# EAGLE library part 1967ВЦ3Т (library mcu)
АЕНВ.431280.088 ТУ, АЕНВ.431280.089 ТУ 1967ВЦ3Т - 32-разрядный высокопроизводительный процессор цифровой обработки сигналов архитектуры TigerSHARC с системой команд ADSP-TS201. Имеет 12МБит SRAM и работает на частоте 300МГц. Производитель: ЗАО "ПКК Миландр", г. Зеленоград, Москва. Технические условия: АЕНВ.431280.088 ТУ, АЕНВ.431280.089 ТУ
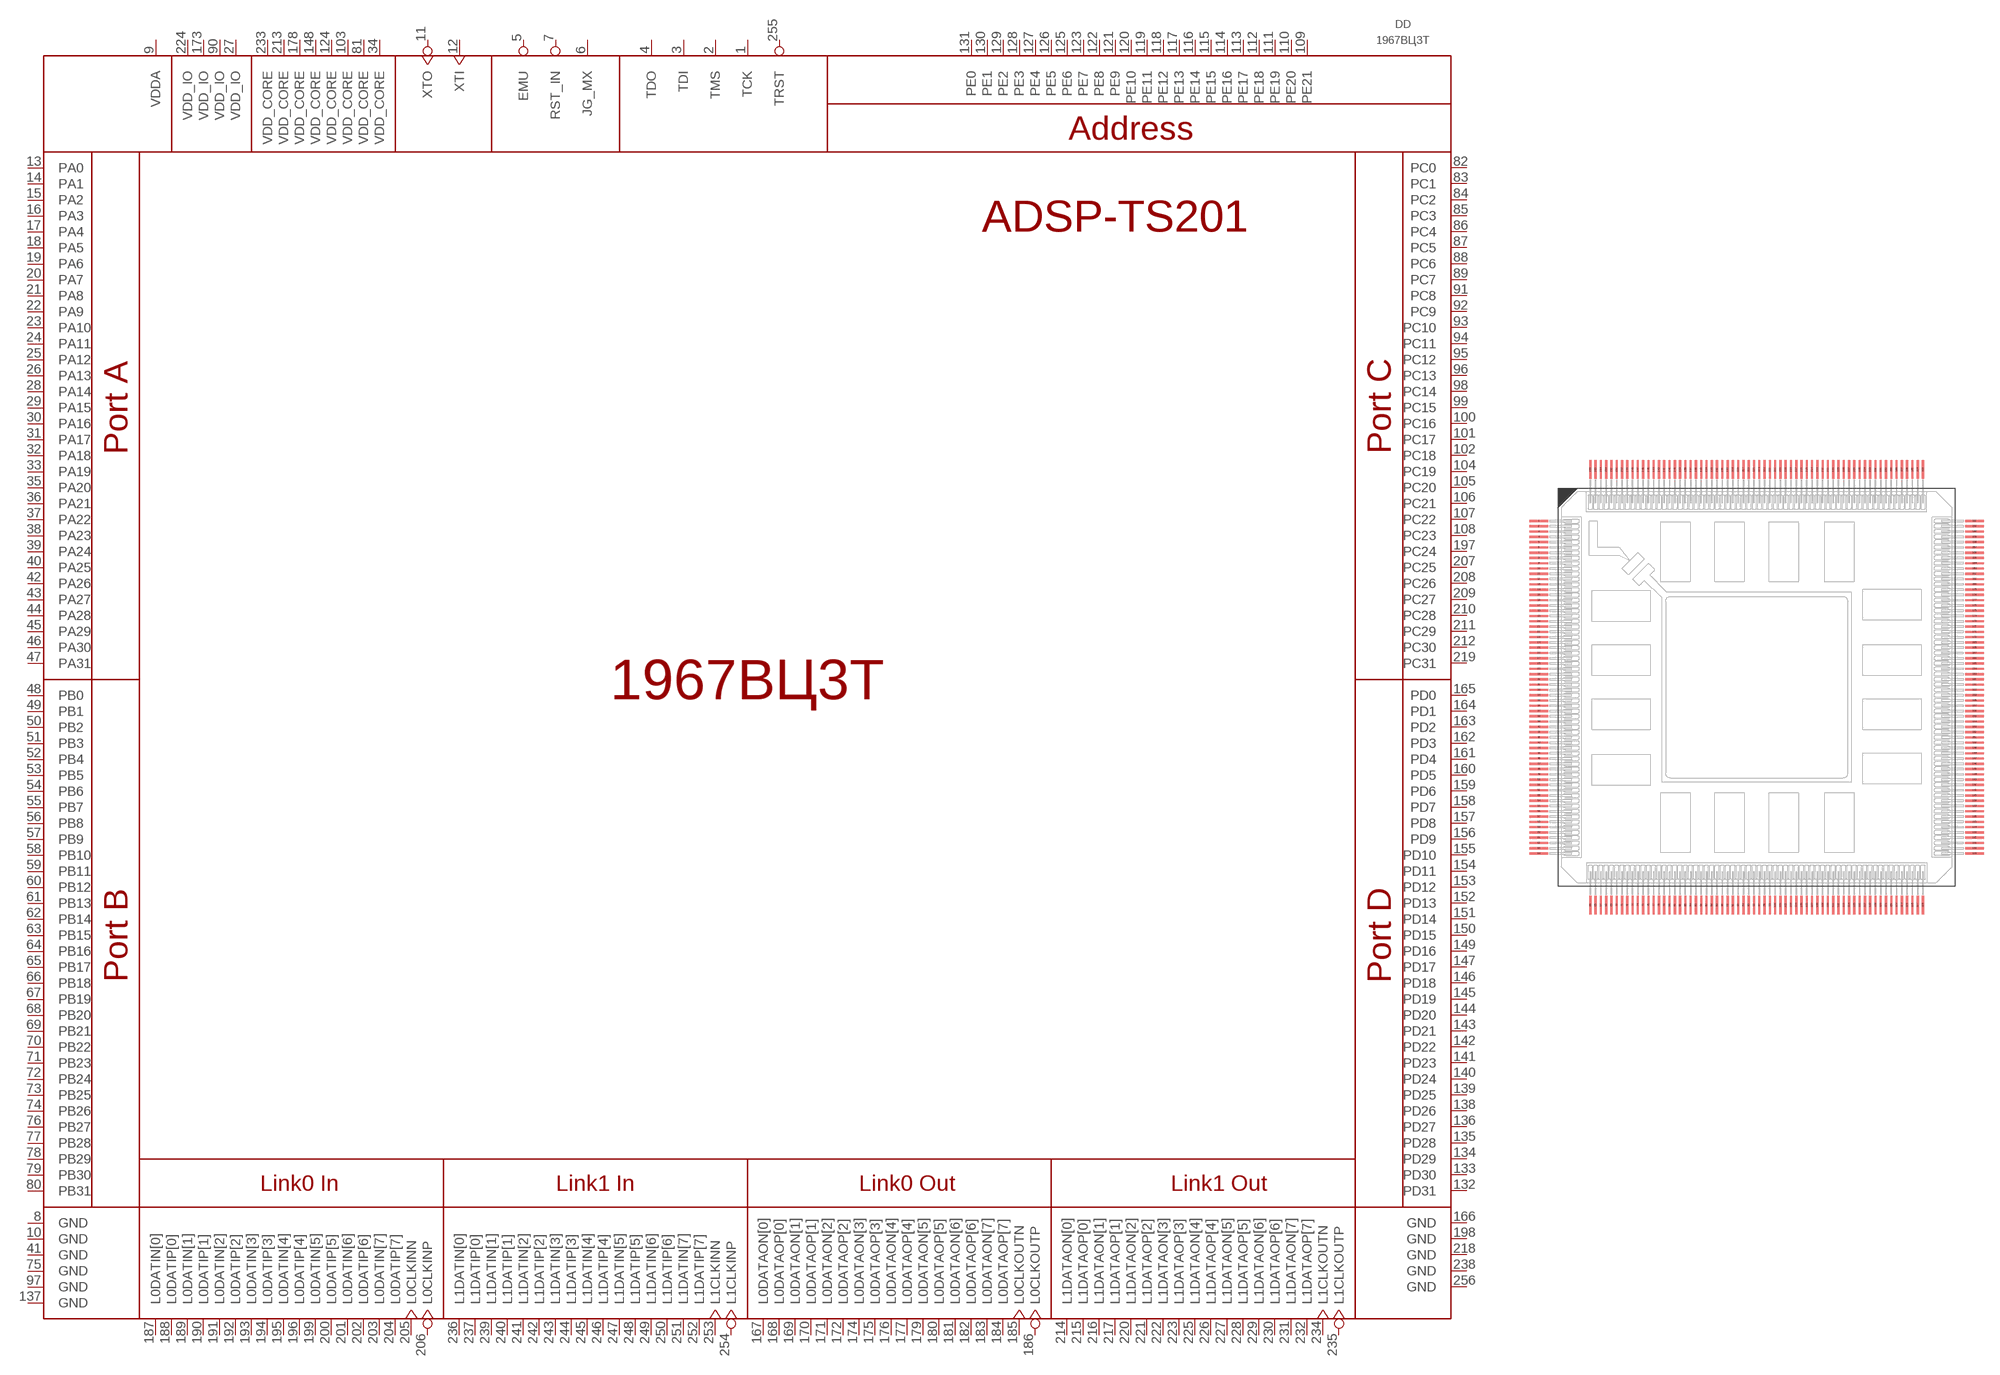
[diagram p7: symbol with the pads of 4244.256-3; footprint 4244.256-3]

Designator prefix DD

## 1967ВЦ3Т  [4244.256-3]
1  TCK  in
2  TMS  in
3  TDI  in
4  TDO  out
5  EMU  out
6  JG_MX  in
7  RST_IN  in
8  GND  pwr
9  VDDA  pwr
10  GND  pwr
11  XTO  out
12  XTI  in
13  PA0
14  PA1
15  PA2
16  PA3
17  PA4
18  PA5
19  PA6
20  PA7  out
21  PA8  out
22  PA9  out
23  PA10  out
24  PA11  out
25  PA12  out
26  PA13
27  VDD_IO  pwr
28  PA14
29  PA15
30  PA16
31  PA17
32  PA18
33  PA19
34  VDD_CORE  pwr
35  PA20
36  PA21
37  PA22
38  PA23
39  PA24
40  PA25
41  GND  pwr
42  PA26
43  PA27
44  PA28
45  PA29
46  PA30
47  PA31
48  PB0  in
49  PB1  in
50  PB2  in
51  PB3  in
52  PB4
53  PB5
54  PB6
55  PB7
56  PB8
57  PB9
58  PB10
59  PB11
60  PB12
61  PB13
62  PB14
63  PB15
64  PB16
65  PB17
66  PB18
67  PB19
68  PB20
69  PB21
70  PB22
71  PB23
72  PB24
73  PB25
74  PB26
75  GND  pwr
76  PB27
77  PB28
78  PB29
79  PB30
80  PB31
81  VDD_CORE  pwr
82  PC0
83  PC1
84  PC2
85  PC3
86  PC4
87  PC5  in
88  PC6
89  PC7  out
90  VDD_IO  pwr
91  PC8
92  PC9
93  PC10
94  PC11
95  PC12
96  PC13
97  GND  pwr
98  PC14
99  PC15
100  PC16
101  PC17
102  PC18  out
103  VDD_CORE  pwr
104  PC19  out
105  PC20  out
106  PC21
107  PC22
108  PC23
109  PE21  out
110  PE20  out
111  PE19  out
112  PE18  out
113  PE17  out
114  PE16  out
115  PE15  out
116  PE14  out
117  PE13  out
118  PE12  out
119  PE11  out
120  PE10  out
121  PE9  out
122  PE8  out
123  PE7  out
124  VDD_CORE  pwr
125  PE6  out
126  PE5  out
127  PE4  out
128  PE3  out
129  PE2  out
130  PE1  out
131  PE0  out
132  PD31
133  PD30
134  PD29
135  PD28
136  PD27
137  GND  pwr
138  PD26
139  PD25
140  PD24
141  PD23
142  PD22
143  PD21
144  PD20
145  PD19
146  PD18
147  PD17
148  VDD_CORE  pwr
149  PD16
150  PD15
151  PD14
152  PD13
153  PD12
154  PD11
155  PD10
156  PD9
157  PD8
158  PD7
159  PD6
160  PD5
161  PD4
162  PD3
163  PD2
164  PD1
165  PD0
166  GND  pwr
167  L0DATAON[0]  out
168  L0DATAOP[0]  out
169  L0DATAON[1]  out
170  L0DATAOP[1]  out
171  L0DATAON[2]  out
172  L0DATAOP[2]  out
173  VDD_IO  pwr
174  L0DATAON[3]  out
175  L0DATAOP[3]  out
176  L0DATAON[4]  out
177  L0DATAOP[4]  out
178  VDD_CORE  pwr
179  L0DATAON[5]  out
180  L0DATAOP[5]  out
181  L0DATAON[6]  out
182  L0DATAOP[6]  out
183  L0DATAON[7]  out
184  L0DATAOP[7]  out
185  L0CLKOUTN  out
186  L0CLKOUTP  out
187  L0DATIN[0]  in
188  L0DATIP[0]  in
189  L0DATIN[1]  in
190  L0DATIP[1]  in
191  L0DATIN[2]  in
192  L0DATIP[2]  in
193  L0DATIN[3]  in
194  L0DATIP[3]  in
195  L0DATIN[4]  in
196  L0DATIP[4]  in
197  PC24
198  GND  pwr
199  L0DATIN[5]  in
200  L0DATIP[5]  in
201  L0DATIN[6]  in
202  L0DATIP[6]  in
203  L0DATIN[7]  in
204  L0DATIP[7]  in
205  L0CLKINN  in
206  L0CLKINP  in
207  PC25
208  PC26
209  PC27
210  PC28
211  PC29
212  PC30
213  VDD_CORE  pwr
214  L1DATAON[0]  out
215  L1DATAOP[0]  out
216  L1DATAON[1]  out
217  L1DATAOP[1]  out
218  GND  pwr
219  PC31
220  L1DATAON[2]  out
221  L1DATAOP[2]  out
222  L1DATAON[3]  out
223  L1DATAOP[3]  out
224  VDD_IO  pwr
225  L1DATAON[4]  out
226  L1DATAOP[4]  out
227  L1DATAON[5]  out
228  L1DATAOP[5]  out
229  L1DATAON[6]  out
230  L1DATAOP[6]  out
231  L1DATAON[7]  out
232  L1DATAOP[7]  out
233  VDD_CORE  pwr
234  L1CLKOUTN  out
235  L1CLKOUTP  out
236  L1DATIN[0]  in
237  L1DATIP[0]  in
238  GND  pwr
239  L1DATIN[1]  in
240  L1DATIP[1]  in
241  L1DATIN[2]  in
242  L1DATIP[2]  in
243  L1DATIN[3]  in
244  L1DATIP[3]  in
245  L1DATIN[4]  in
246  L1DATIP[4]  in
247  L1DATIN[5]  in
248  L1DATIP[5]  in
249  L1DATIN[6]  in
250  L1DATIP[6]  in
251  L1DATIN[7]  in
252  L1DATIP[7]  in
253  L1CLKINN  in
254  L1CLKINP  in
255  TRST  in
256  GND  pwr

## Footprint 4244.256-3 (pad centres in mm)
smd 1.75 x 0.2: 1 -20.625,15.75; 2 -20.625,15.25; 3 -20.625,14.75; 4 -20.625,14.25; 5 -20.625,13.75; 6 -20.625,13.25; 7 -20.625,12.75; 8 -20.625,12.25; 9 -20.625,11.75; 10 -20.625,11.25; 11 -20.625,10.75; 12 -20.625,10.25; 13 -20.625,9.75; 14 -20.625,9.25; 15 -20.625,8.75; 16 -20.625,8.25; 17 -20.625,7.75; 18 -20.625,7.25; 19 -20.625,6.75; 20 -20.625,6.25; 21 -20.625,5.75; 22 -20.625,5.25; 23 -20.625,4.75; 24 -20.625,4.25; 25 -20.625,3.75; 26 -20.625,3.25; 27 -20.625,2.75; 28 -20.625,2.25; 29 -20.625,1.75; 30 -20.625,1.25; 31 -20.625,0.75; 32 -20.625,0.25; 33 -20.625,-0.25; 34 -20.625,-0.75; 35 -20.625,-1.25; 36 -20.625,-1.75; 37 -20.625,-2.25; 38 -20.625,-2.75; 39 -20.625,-3.25; 40 -20.625,-3.75; 41 -20.625,-4.25; 42 -20.625,-4.75; 43 -20.625,-5.25; 44 -20.625,-5.75; 45 -20.625,-6.25; 46 -20.625,-6.75; 47 -20.625,-7.25; 48 -20.625,-7.75; 49 -20.625,-8.25; 50 -20.625,-8.75; 51 -20.625,-9.25; 52 -20.625,-9.75; 53 -20.625,-10.25; 54 -20.625,-10.75; 55 -20.625,-11.25; 56 -20.625,-11.75; 57 -20.625,-12.25; 58 -20.625,-12.75; 59 -20.625,-13.25; 60 -20.625,-13.75; 61 -20.625,-14.25; 62 -20.625,-14.75; 63 -20.625,-15.25; 64 -20.625,-15.75; 129 20.625,-15.75; 130 20.625,-15.25; 131 20.625,-14.75; 132 20.625,-14.25; 133 20.625,-13.75; 134 20.625,-13.25; 135 20.625,-12.75; 136 20.625,-12.25; 137 20.625,-11.75; 138 20.625,-11.25; 139 20.625,-10.75; 140 20.625,-10.25; 141 20.625,-9.75; 142 20.625,-9.25; 143 20.625,-8.75; 144 20.625,-8.25; 145 20.625,-7.75; 146 20.625,-7.25; 147 20.625,-6.75; 148 20.625,-6.25; 149 20.625,-5.75; 150 20.625,-5.25; 151 20.625,-4.75; 152 20.625,-4.25; 153 20.625,-3.75; 154 20.625,-3.25; 155 20.625,-2.75; 156 20.625,-2.25; 157 20.625,-1.75; 158 20.625,-1.25; 159 20.625,-0.75; 160 20.625,-0.25; 161 20.625,0.25; 162 20.625,0.75; 163 20.625,1.25; 164 20.625,1.75; 165 20.625,2.25; 166 20.625,2.75; 167 20.625,3.25; 168 20.625,3.75; 169 20.625,4.25; 170 20.625,4.75; 171 20.625,5.25; 172 20.625,5.75; 173 20.625,6.25; 174 20.625,6.75; 175 20.625,7.25; 176 20.625,7.75; 177 20.625,8.25; 178 20.625,8.75; 179 20.625,9.25; 180 20.625,9.75; 181 20.625,10.25; 182 20.625,10.75; 183 20.625,11.25; 184 20.625,11.75; 185 20.625,12.25; 186 20.625,12.75; 187 20.625,13.25; 188 20.625,13.75; 189 20.625,14.25; 190 20.625,14.75; 191 20.625,15.25; 192 20.625,15.75
smd 0.2 x 1.75: 65 -15.75,-20.625; 66 -15.25,-20.625; 67 -14.75,-20.625; 68 -14.25,-20.625; 69 -13.75,-20.625; 70 -13.25,-20.625; 71 -12.75,-20.625; 72 -12.25,-20.625; 73 -11.75,-20.625; 74 -11.25,-20.625; 75 -10.75,-20.625; 76 -10.25,-20.625; 77 -9.75,-20.625; 78 -9.25,-20.625; 79 -8.75,-20.625; 80 -8.25,-20.625; 81 -7.75,-20.625; 82 -7.25,-20.625; 83 -6.75,-20.625; 84 -6.25,-20.625; 85 -5.75,-20.625; 86 -5.25,-20.625; 87 -4.75,-20.625; 88 -4.25,-20.625; 89 -3.75,-20.625; 90 -3.25,-20.625; 91 -2.75,-20.625; 92 -2.25,-20.625; 93 -1.75,-20.625; 94 -1.25,-20.625; 95 -0.75,-20.625; 96 -0.25,-20.625; 97 0.25,-20.625; 98 0.75,-20.625; 99 1.25,-20.625; 100 1.75,-20.625; 101 2.25,-20.625; 102 2.75,-20.625; 103 3.25,-20.625; 104 3.75,-20.625; 105 4.25,-20.625; 106 4.75,-20.625; 107 5.25,-20.625; 108 5.75,-20.625; 109 6.25,-20.625; 110 6.75,-20.625; 111 7.25,-20.625; 112 7.75,-20.625; 113 8.25,-20.625; 114 8.75,-20.625; 115 9.25,-20.625; 116 9.75,-20.625; 117 10.25,-20.625; 118 10.75,-20.625; 119 11.25,-20.625; 120 11.75,-20.625; 121 12.25,-20.625; 122 12.75,-20.625; 123 13.25,-20.625; 124 13.75,-20.625; 125 14.25,-20.625; 126 14.75,-20.625; 127 15.25,-20.625; 128 15.75,-20.625; 193 15.75,20.625; 194 15.25,20.625; 195 14.75,20.625; 196 14.25,20.625; 197 13.75,20.625; 198 13.25,20.625; 199 12.75,20.625; 200 12.25,20.625; 201 11.75,20.625; 202 11.25,20.625; 203 10.75,20.625; 204 10.25,20.625; 205 9.75,20.625; 206 9.25,20.625; 207 8.75,20.625; 208 8.25,20.625; 209 7.75,20.625; 210 7.25,20.625; 211 6.75,20.625; 212 6.25,20.625; 213 5.75,20.625; 214 5.25,20.625; 215 4.75,20.625; 216 4.25,20.625; 217 3.75,20.625; 218 3.25,20.625; 219 2.75,20.625; 220 2.25,20.625; 221 1.75,20.625; 222 1.25,20.625; 223 0.75,20.625; 224 0.25,20.625; 225 -0.25,20.625; 226 -0.75,20.625; 227 -1.25,20.625; 228 -1.75,20.625; 229 -2.25,20.625; 230 -2.75,20.625; 231 -3.25,20.625; 232 -3.75,20.625; 233 -4.25,20.625; 234 -4.75,20.625; 235 -5.25,20.625; 236 -5.75,20.625; 237 -6.25,20.625; 238 -6.75,20.625; 239 -7.25,20.625; 240 -7.75,20.625; 241 -8.25,20.625; 242 -8.75,20.625; 243 -9.25,20.625; 244 -9.75,20.625; 245 -10.25,20.625; 246 -10.75,20.625; 247 -11.25,20.625; 248 -11.75,20.625; 249 -12.25,20.625; 250 -12.75,20.625; 251 -13.25,20.625; 252 -13.75,20.625; 253 -14.25,20.625; 254 -14.75,20.625; 255 -15.25,20.625; 256 -15.75,20.625